# EAGLE library part TRIANGLE_2X3 (library FA3D_lib)
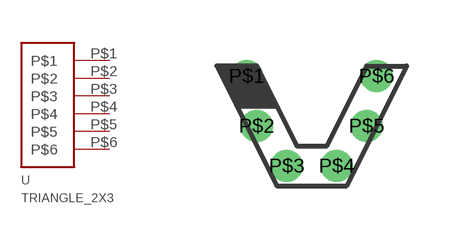
[diagram p10: symbol with the pads of TRIANGLE_2X3; footprint TRIANGLE_2X3]

Designator prefix -

## TRIANGLE_2X3  [TRIANGLE_2X3]
P$1  P$1
P$2  P$2
P$3  P$3
P$4  P$4
P$5  P$5
P$6  P$6

## Footprint TRIANGLE_2X3 (pad centres in mm)
drill 0.3: P$1 -1.5,2.25; P$2 -1.25,1; P$3 -0.5,0; P$4 0.75,0; P$5 1.5,1; P$6 1.75,2.25